# Altium integrated library Connectors.IntLib: 9 symbols
Pins are listed as number, name and electrical type; pins without a type are passive.

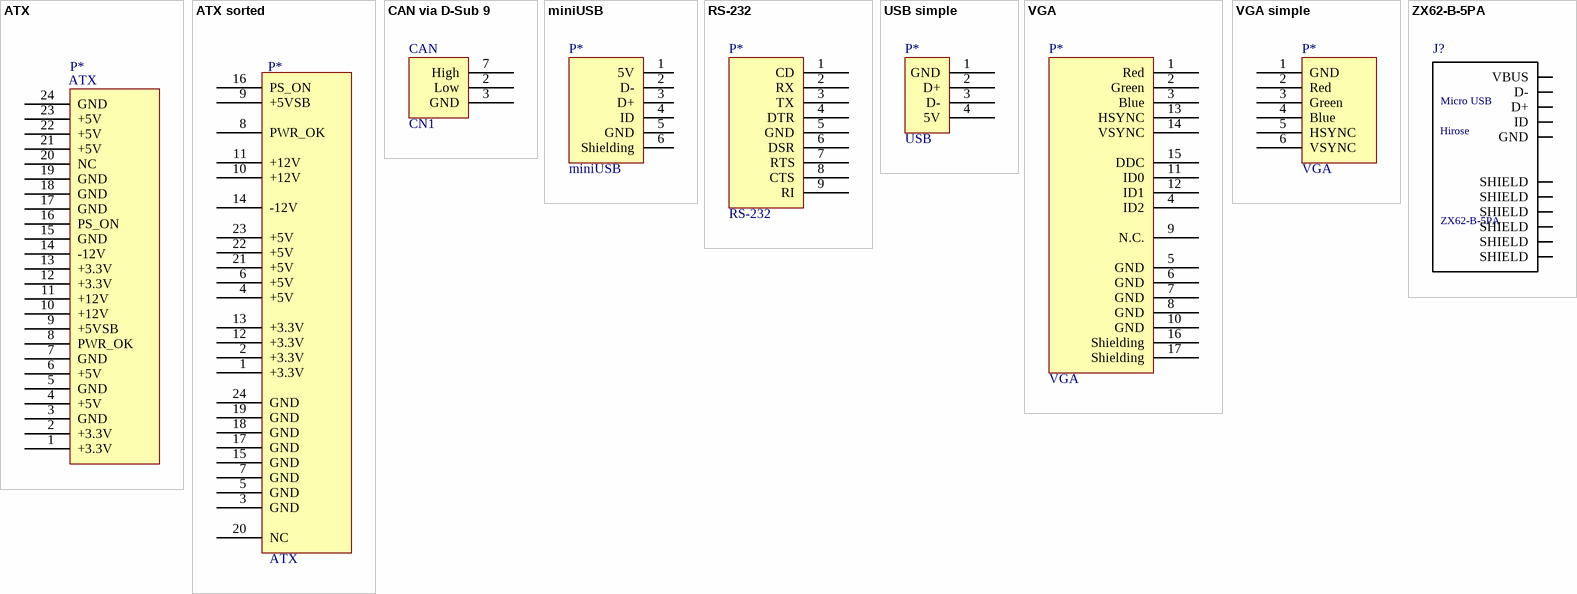
[diagram p0: symbols ATX to ZX62-B-5PA]

## ATX
designator P*
pins: 1 +3.3V, 2 +3.3V, 3 GND, 4 +5V, 5 GND, 6 +5V, 7 GND, 8 PWR_OK, 9 +5VSB, 10 +12V, 11 +12V, 12 +3.3V, 13 +3.3V, 14 -12V, 15 GND, 16 PS_ON, 17 GND, 18 GND, 19 GND, 20 NC, 21 +5V, 22 +5V, 23 +5V, 24 GND

## ATX sorted
designator P*, comment ATX
pins: 1 +3.3V, 2 +3.3V, 3 GND, 4 +5V, 5 GND, 6 +5V, 7 GND, 8 PWR_OK, 9 +5VSB, 10 +12V, 11 +12V, 12 +3.3V, 13 +3.3V, 14 -12V, 15 GND, 16 PS_ON, 17 GND, 18 GND, 19 GND, 20 NC, 21 +5V, 22 +5V, 23 +5V, 24 GND

## CAN via D-Sub 9
designator CN1, comment CAN
footprint D-SUB 9
pins: 2 Low, 3 GND, 7 High

## miniUSB
designator miniUSB, comment P*
footprint miniUSB
pins: 1 5V, 2 D-, 3 D+, 4 ID, 5 GND, 6 Shielding

## RS-232
designator P*
pins: 1 CD, 2 RX, 3 TX, 4 DTR, 5 GND, 6 DSR, 7 RTS, 8 CTS, 9 RI

## USB simple
designator P*, comment USB
footprint USB plug
pins: 1 GND, 2 D+, 3 D-, 4 5V

## VGA
designator P*
pins: 1 Red, 2 Green, 3 Blue, 4 ID2, 5 GND, 6 GND, 7 GND, 8 GND, 9 N.C., 10 GND, 11 ID0, 12 ID1, 13 HSYNC, 14 VSYNC, 15 DDC, 16 Shielding, 17 Shielding

## VGA simple
designator P*, comment VGA
pins: 1 GND, 2 Red, 3 Green, 4 Blue, 5 HSYNC, 6 VSYNC

## ZX62-B-5PA
designator J?  (value not drawn)
5 Contact USB 2.0 Type B male receptacle; MP: ZX62-B-5PA; MF: Hirose; Price: None; Package: None; Availability: Unavailable; Value: *
footprint ZX62-B-5PA(11)_ZX62-B-5PA(Primary)
pins: 1 VBUS (power), 2 D- (io), 3 D+ (io), 4 ID (io), 5 GND (power), SH1 SHIELD (power), SH2 SHIELD (power), SH3 SHIELD (power), SH4 SHIELD (power), SH5 SHIELD (power), SH6 SHIELD (power)
text: Micro USB